# EAGLE library part SN74LVC2G04 (library TI)
SN76LVC2G04 Dual Inverter Gate Website: http://www.ti.com/product/sn74lvc2g04 Datasheet: http://www.ti.com/lit/ds/symlink/sn74lvc2g04.pdf
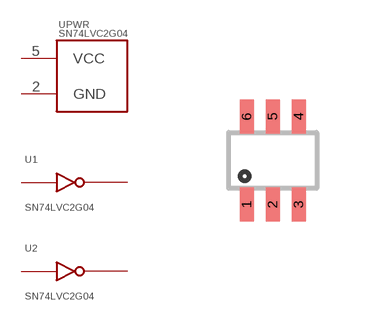
[diagram p4: symbol with the pads of DCK_(R-PDSO-G6); footprint DCK_(R-PDSO-G6)]

Designator prefix -; gates 1=INVERTER 2=INVERTER PWR=VCC-GND

## SN74LVC2G04-DCK (PARTNO: SN74LVC2G04DCKR)  [DCK_(R-PDSO-G6)]
1  1:A  in
2  PWR:GND  pwr
3  2:A  in
4  2:Y  out
5  PWR:VCC  pwr
6  1:Y  out

## Footprint DCK_(R-PDSO-G6) (pad centres in mm)
TI DCK (R-PDSO-G6): PLASTIC SMALL OUTLINE From http://www.ti.com/lit/ml/mpds114c/mpds114c.pdf
smd 0.35 x 0.85: 1 -0.65,-1.1; 2 0,-1.1; 3 0.65,-1.1; 4 0.65,1.1; 5 0,1.1; 6 -0.65,1.1